# Altium integrated library ptc-ntc.IntLib: 13 symbols
Pins are listed as number, name and electrical type; pins without a type are passive.

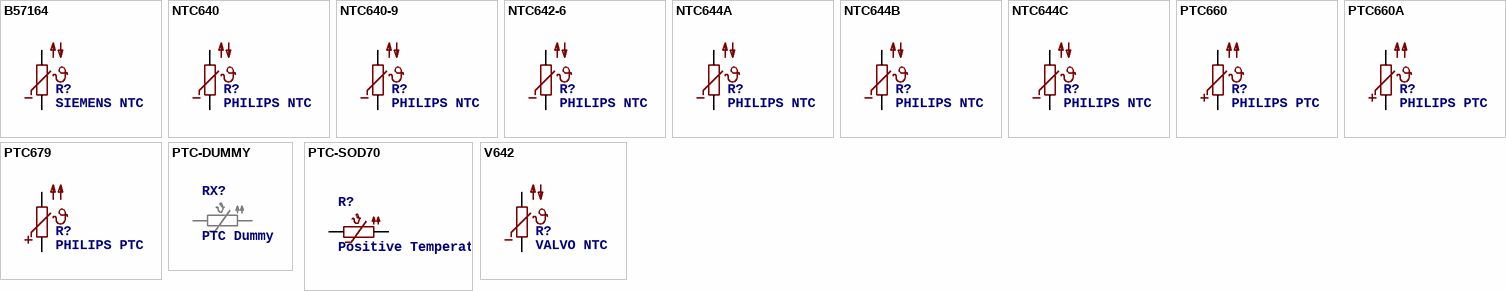
[diagram p0: symbols B57164 to V642]

## B57164
designator R?, comment SIEMENS NTC
MPN: B57164K474K52; OC_FARNELL: 9753451; OC_NEWARK: 29M3118
footprint B57164
pins: 1, 2

## NTC640
designator R?, comment PHILIPS NTC
OC_FARNELL: unknown; OC_NEWARK: unknown
footprint P640
pins: 1, 2

## NTC640-9
designator R?, comment PHILIPS NTC
OC_FARNELL: unknown; OC_NEWARK: unknown
footprint N640
pins: 1, 2

## NTC642-6
designator R?, comment PHILIPS NTC
OC_FARNELL: unknown; OC_NEWARK: unknown
footprint P642
pins: 1, 2

## NTC644A
designator R?, comment PHILIPS NTC
OC_FARNELL: unknown; OC_NEWARK: unknown
footprint N644A
pins: 1, 2

## NTC644B
designator R?, comment PHILIPS NTC
OC_FARNELL: unknown; OC_NEWARK: unknown
footprint N644B
pins: 1, 2

## NTC644C
designator R?, comment PHILIPS NTC
OC_FARNELL: unknown; OC_NEWARK: unknown
footprint N644C
pins: 1, 2

## PTC660
designator R?, comment PHILIPS PTC
OC_FARNELL: unknown; OC_NEWARK: unknown
footprint P660
pins: 1, 2

## PTC660A
designator R?, comment PHILIPS PTC
OC_FARNELL: unknown; OC_NEWARK: unknown
footprint P660A
pins: 1, 2

## PTC679
designator R?, comment PHILIPS PTC
OC_FARNELL: unknown; OC_NEWARK: unknown
footprint P679
pins: 1, 2

## PTC-DUMMY
designator RX?, comment PTC Dummy

## PTC-SOD70
designator R?, comment Positive Temperature Coefficient Resistor (PTC) termistor   Philips KTY81-210 - KTY81-252 Source: 153627-da-01-en-Temperatur-Sensor_KTY10-6_Philips.pdf
OC_FARNELL: unknown; OC_NEWARK: unknown
footprint SOD70
pins: 1, 2

## V642
designator R?, comment VALVO NTC
OC_FARNELL: unknown; OC_NEWARK: unknown
footprint P642
pins: 1, 2